# Altium schematic symbol library Relays.SchLib: 2 symbols
Pins are listed as number, name and electrical type; pins without a type are passive.

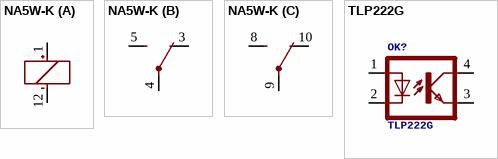
[diagram p0: symbols NA5W-K to TLP222G]

## NA5W-K
designator K?  (value not drawn)
Price: 1.1
footprint NA5
part A pins: 1 +, 12 -
part B pins: 3 O, 4 P, 5 S
part C pins: 8 S, 9 P, 10 O

## TLP222G
designator OK?
Price: 0.36
footprint DIL4
pins: 1 A, 2 C, 3 EMIT, 4 COL